# EAGLE library part PC-8 (library Simplex-Fuses)
PC-8 fuse box Power Center 8 fuse box made by Eastern Beaver Company
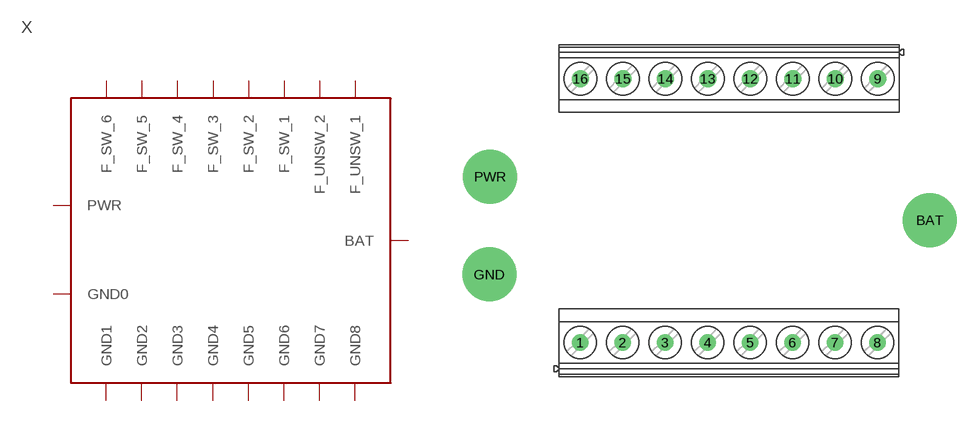
[diagram p0: symbol with the pads of PC-8; footprint PC-8]

Designator prefix X

## PC-8  [PC-8]
1  GND1  pas
2  GND2  pas
3  GND3  pas
4  GND4  pas
5  GND5  pas
6  GND6  pas
7  GND7  pas
8  GND8  pas
9  F_UNSW_1  pas
10  F_UNSW_2  pas
11  F_SW_1  pas
12  F_SW_2  pas
13  F_SW_3  pas
14  F_SW_4  pas
15  F_SW_5  pas
16  F_SW_6  pas
BAT  BAT  pas
GND  GND0  pas
PWR  PWR  pas

## Footprint PC-8 (pad centres in mm)
PC-8 Eastern Beaver's Power Center 8 switched ports: 6 unswitched ports:2 Source: http://www.easternbeaver.com/Main/Wiring_Kits/Fuseboxes/PC-8/pc-8.html
drill 1.3 pad 2: 1 -17.771,-14.135; 2 -12.691,-14.135; 3 -7.611,-14.135; 4 -2.531,-14.135; 5 2.549,-14.135; 6 7.629,-14.135; 7 12.709,-14.135; 8 17.789,-14.135; 9 17.831,17.395; 10 12.751,17.395; 11 7.671,17.395; 12 2.591,17.395; 13 -2.489,17.395; 14 -7.569,17.395; 15 -12.649,17.395; 16 -17.729,17.395
drill 5 pad 6.452: BAT 24.071,0.495; GND -28.629,-6.005; PWR -28.529,5.695